# Altium integrated library MergenElektronik_MotorControllers_Steppers.IntLib: 1 symbol
Pins are listed as number, name and electrical type; pins without a type are passive.

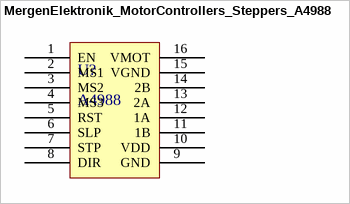
[diagram p0: symbol MergenElektronik_MotorControllers_Steppers_A4988]

## MergenElektronik_MotorControllers_Steppers_A4988
designator U?, comment A4988
Mergen Elektronik - Motor Controllers - Steppers - A4988; Manufacturer Number: 2986; Manufacturer: Pololu Corporation; Model: Stepper Motor Controller; Digi-Key Number: 2183-2986-ND; Mounting Type: THT; Value: A4988
footprint MergenElektronik_MotorControllers_Steppers_A4988-NoHeader (A4988 No Header)
footprint MergenElektronik_MotorControllers_Steppers_A4988-WithHeader (A4988 With Header)
pins: 1 EN, 2 MS1, 3 MS2, 4 MS3, 5 RST, 6 SLP, 7 STP, 8 DIR, 9 GND, 10 VDD, 11 1B, 12 1A, 13 2A, 14 2B, 15 VGND, 16 VMOT